# Altium schematic symbol library EEPROM.SCHLIB: 1 symbol
Pins are listed as number, name and electrical type; pins without a type are passive.

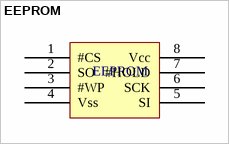
[diagram p0: symbol EEPROM]

## EEPROM
designator EEPROM  (value not drawn)
pins: 1 #CS, 2 SO, 3 #WP, 4 Vss, 5 SI, 6 SCK, 7 #HOLD, 8 Vcc